# EAGLE library part TRAFO-NEUTRIK-NTM4 (library 1A-meinLib)
Mikrophonübertrager, NLT1 (1:1), NTM1 (1:1), NTM4 (1:4) 105 Ohm/1.25 kOhm, Eingangspegel: 1Veff, CONRAD 516000-62
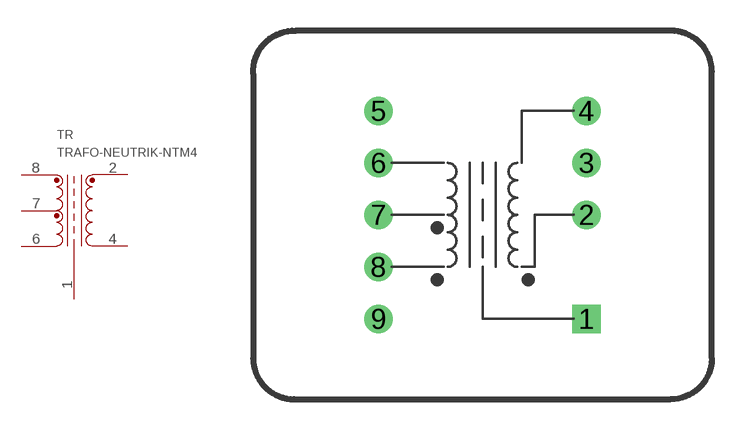
[diagram p245: symbol with the pads of TRAFO-NEUTRIK-NTM4; footprint TRAFO-NEUTRIK-NTM4]

Designator prefix TR

## TRAFO-NEUTRIK-NTM4  [TRAFO-NEUTRIK-NTM4]
1  1
2  2
4  4
6  6
7  7
8  8

## Footprint TRAFO-NEUTRIK-NTM4 (pad centres in mm)
Studio-Übertrager Mikrophon 1:4, NTM 4, NEUTRIK AG
drill 0.9 square: 1 5.08,-5.08
drill 0.9 round: 2 5.08,0; 3 5.08,2.54; 4 5.08,5.08; 5 -5.08,5.08; 6 -5.08,2.54; 7 -5.08,0; 8 -5.08,-2.54; 9 -5.08,-5.08